# Altium footprint library MISC.PcbLib: 7 footprints
Each footprint in its own frame and in the unit in brackets; x right, y up, seen from the top. Pads: shape width x height; smd on the part's side, far side on the other; paste and mask are expansions set on the pad; w line width, h text height; cw(c..) or ccw(c..) is an arc to the next point about the centre after c.
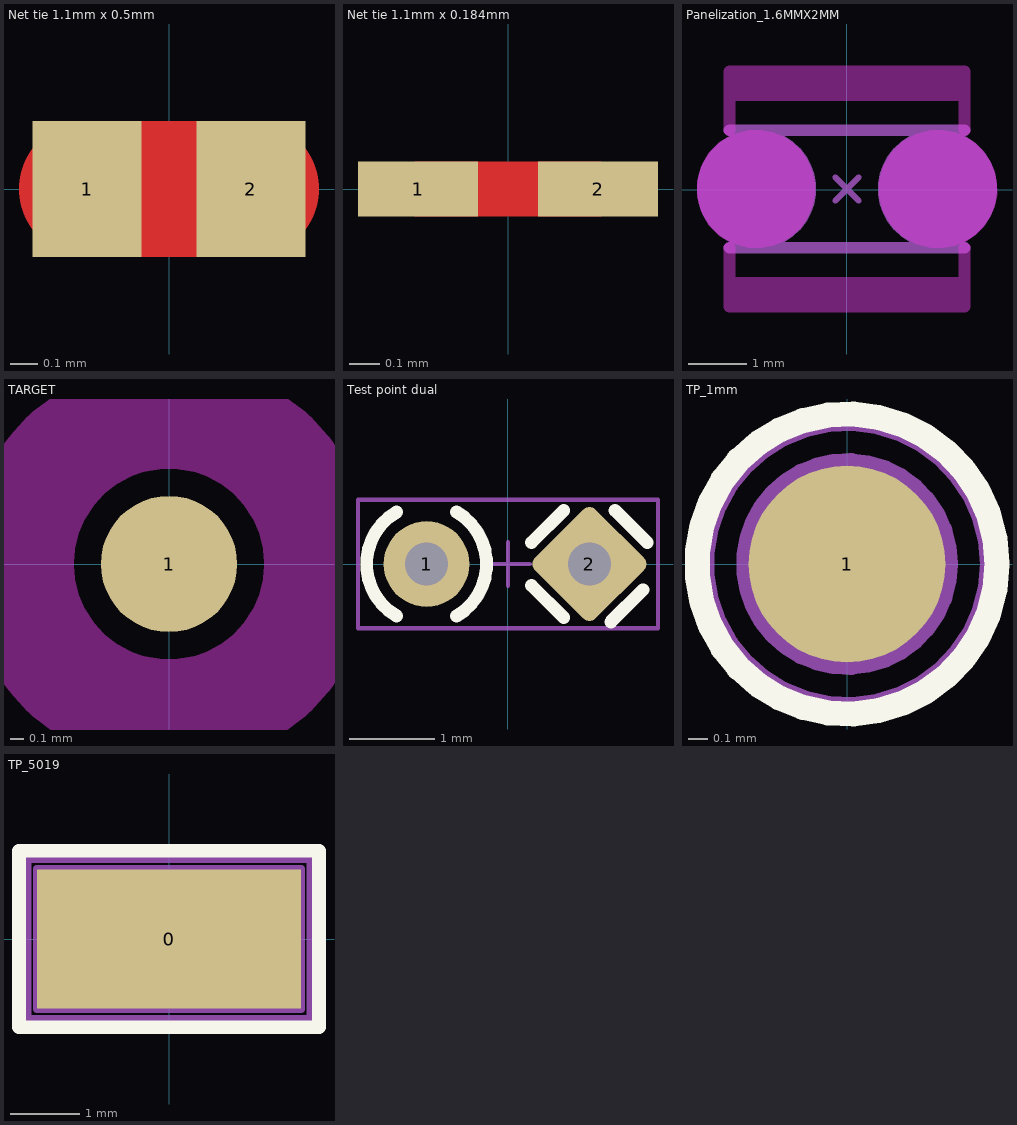
[diagram p0: the footprints below, top view; thin cyan lines are the x and y axes]

## Net tie 1.1mm x 0.5mm [mm]
pads (2):
  rect 0.4x0.5 smd paste+0 mask+0: 1(-0.3,0) 2(0.3,0)
Top Layer:
  lines w0.5: -0.3,0 0.3,0

## Net tie 1.1mm x 0.184mm [mm]
pads (2):
  rect 0.4x0.184 smd paste+0 mask+0: 1(-0.3,0) 2(0.3,0)
Top Layer:
  lines w0.184: -0.3,0 0.3,0

## Panelization_1.6MMX2MM [mm]
Keep-Out Layer:
  board cut-out: 1.55,-0.984 1.419,-0.984 1.164,-0.916 0.936,-0.785 0.75,-0.598 0.618,-0.37 0.55,-0.116 0.55,0.148 0.618,0.402 0.75,0.63 0.936,0.817 1.164,0.948 1.419,1.016 1.55,1.016 1.649,1.016 1.842,0.978 2.024,0.903 2.188,0.793 2.327,0.654 2.437,0.49 2.512,0.308 2.551,0.115 2.551,0.016 2.551,-0.083 2.512,-0.276 2.437,-0.458 2.327,-0.622 2.188,-0.761 2.024,-0.871 1.842,-0.946 1.649,-0.984
  board cut-out: -1.55,-0.984 -1.682,-0.984 -1.937,-0.916 -2.165,-0.785 -2.351,-0.598 -2.483,-0.37 -2.551,-0.116 -2.551,0.148 -2.483,0.402 -2.351,0.63 -2.165,0.817 -1.937,0.948 -1.682,1.016 -1.55,1.016 -1.452,1.016 -1.259,0.978 -1.077,0.903 -0.913,0.793 -0.773,0.654 -0.664,0.49 -0.588,0.308 -0.55,0.115 -0.55,0.016 -0.55,-0.083 -0.588,-0.276 -0.664,-0.458 -0.773,-0.622 -0.913,-0.761 -1.077,-0.871 -1.259,-0.946 -1.452,-0.984
Keep-Out Layer:
  region: 2,2.016 -2,2.016 -2,1.516 2,1.516
  rectangle: -2,-1.984 2,-1.484
  lines w0.2: -2,-0.984 -2,-1.984 ; -2,1.016 -2,2.016 ; 2,-0.984 2,-1.984 ; 2,1.016 2,2.016 ; -2,-1.984 2,-1.984 ; -2,-1.984 -2,-1.984 ; -2,2.016 -2,2.016 ; -2,2.016 2,2.016 ; 2,-1.984 2,-1.984 ; 2,2.016 2,2.016
Mechanical 2:
  lines w0.2: -2,-0.984 2,-0.984 ; -2,1.016 2,1.016
Mechanical 4:
  lines w0.05: -1.55,-0.984 ccw(c-1.55,0.016) -1.55,1.016 ; 1.55,-0.984 cw(c1.55,0.016) 1.55,1.016
  lines w0.1: -0.2,-0.184 0.2,0.216 ; -0.2,0.216 0.2,-0.184
Route Tool Path:
  lines w2: -1.55,0.016 -1.55,0.016 ; 1.55,0.016 1.55,0.016

## TARGET [mm]
pads (1):
  round 1 smd mask+1: 1(0,0)
Top Layer keep-out:
  circle w0.8: c0,0 r1.1
Mechanical 1:
  text ".Designator" at -0.15,0.425 h0.38

## Test point dual [mm]
pads (2):
  round 1 hole 0.5 paste-2539.97 mask+0.15: 1(-0.95,0)
  rrect20% 1x1 hole 0.5 rot 45 paste-2539.97 mask+0.2: 2(0.95,0)
Top Overlay:
  lines w0.15: -1.3,-0.606 cw(c-0.95,0) -1.3,0.606 ; -0.6,-0.606 ccw(c-0.95,0) -0.6,0.606 ; 0.275,-0.25 0.65,-0.625 ; 0.275,0.25 0.65,0.625 ; 1.2,-0.675 1.575,-0.3 ; 1.25,0.625 1.625,0.25
Mechanical 1:
  text ".Designator" at -1.575,-0.625 h0.38
Mechanical 15:
  lines w0.05: -0.254,0 0.254,0 ; 0,-0.254 0,0.254 ; -1.75,-0.75 -1.75,0.75 1.75,0.75 1.75,-0.75 -1.75,-0.75

## TP_1mm [mm]
pads (1):
  round 1 smd paste-1: 1(0,0)
Top Overlay:
  circle w0.127: c0,0 r0.762
Mechanical 1:
  circle w0.127: c0,0 r0.5
  text ".Designator" at 0.6,0.275 h0.38
Mechanical 15:
  circle w0.05: c0,0 r0.7
  lines w0.05: -0.254,0 0.254,0 ; 0,-0.254 0,0.254
3D body: height 0.01, standoff 0, extent -0.5,-0.5 0.5,0.5

## TP_5019 [mm]
pads (1):
  rect 3.8x2 smd: 0(0,0)
Top Overlay:
  lines w0.2: -2.159,-1.27 2.159,-1.27 2.159,1.27 -2.159,1.27 -2.159,-1.27
Mechanical 1:
  lines w0.1: -1.905,-1.016 -1.905,1.016 1.905,1.016 1.905,-1.016 -1.905,-1.016
  text ".Designator" at 0.381,-0.094 h0.5
Mechanical 15:
  lines w0.1: -0.635,0 0.635,0 ; 0,-0.635 0,0.635 ; -2.032,-1.143 2.032,-1.143 2.032,1.143 -2.032,1.143 -2.032,-1.143
3D body "keystone-PN5019.STEP": height 2.31, standoff 0.03, extent -1.905,-1.016 1.905,1.016